# EAGLE library part LTC1597 (library 1A-meinLib)
16-Bit, parallel Input multiplying Digital-to-Analog Converter, Linear Technology (baugleich mit DAC8820 von TI, Burr Brown)
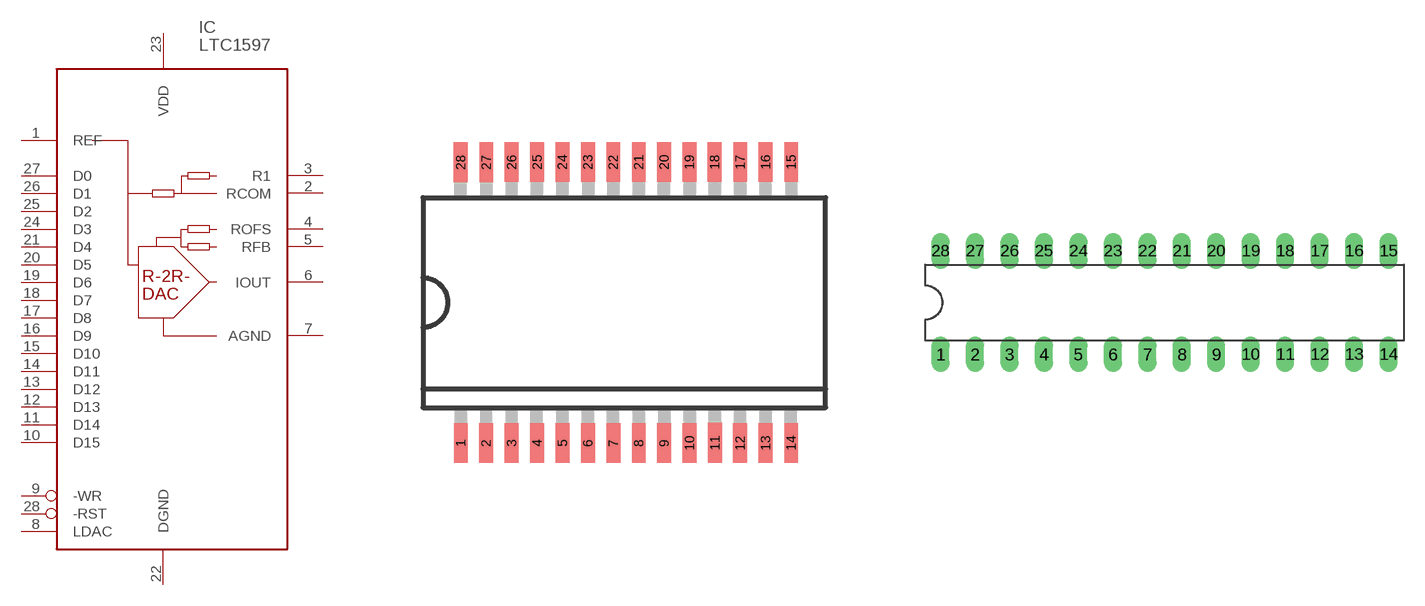
[diagram p174: symbol with the pads of SSOP-28-0.209; footprints SSOP-28-0.209, DIL28-0.300-NARROW]

Designator prefix IC

## LTC1597BCG  [SSOP-28-0.209]
1  REF  pas
2  RCOM  pas
3  R1  pas
4  ROFS  pas
5  RFB  pas
6  IOUT  out
7  AGND  pas
8  LDAC  in
9  -WR  in
10  D15  in
11  D14  in
12  D13  in
13  D12  in
14  D11  in
15  D10  in
16  D9  in
17  D8  in
18  D7  in
19  D6  in
20  D5  in
21  D4  in
22  DGND  pwr
23  VDD  pwr
24  D3  in
25  D2  in
26  D1  in
27  D0  in
28  -RST  in

## LTC1597BCN  [DIL28-0.300-NARROW]
Pads as for SSOP-28-0.209

## Footprint SSOP-28-0.209 (pad centres in mm)
smd 0.356 x 1.016: 1 -4.229,-3.584; 2 -3.581,-3.587; 3 -2.926,-3.587; 4 -2.277,-3.587; 5 -1.623,-3.587; 6 -0.976,-3.587; 7 -0.322,-3.587; 8 0.327,-3.587; 9 0.977,-3.588; 10 1.626,-3.587; 11 2.277,-3.582; 12 2.923,-3.587; 13 3.575,-3.587; 14 4.228,-3.587; 15 4.228,3.603; 16 3.575,3.606; 17 2.923,3.603; 18 2.27,3.603; 19 1.623,3.603; 20 0.976,3.603; 21 0.327,3.603; 22 -0.327,3.603; 23 -0.976,3.603; 24 -1.628,3.603; 25 -2.274,3.603; 26 -2.926,3.603; 27 -3.576,3.598; 28 -4.229,3.598

## Footprint DIL28-0.300-NARROW (pad centres in mm)
drill 0.813 long: 1 -15.24,-3.81; 2 -12.7,-3.81; 3 -10.16,-3.81; 4 -7.62,-3.81; 5 -5.08,-3.81; 6 -2.54,-3.81; 7 0,-3.81; 8 2.54,-3.81; 9 5.08,-3.81; 10 7.62,-3.81; 11 10.16,-3.81; 12 12.7,-3.81; 13 15.24,-3.81; 14 17.78,-3.81; 15 17.78,3.81; 16 15.24,3.81; 17 12.7,3.81; 18 10.16,3.81; 19 7.62,3.81; 20 5.08,3.81; 21 2.54,3.81; 22 0,3.81; 23 -2.54,3.81; 24 -5.08,3.81; 25 -7.62,3.81; 26 -10.16,3.81; 27 -12.7,3.81; 28 -15.24,3.81